# EAGLE library part BQ34Z100 (library zz-upenn)
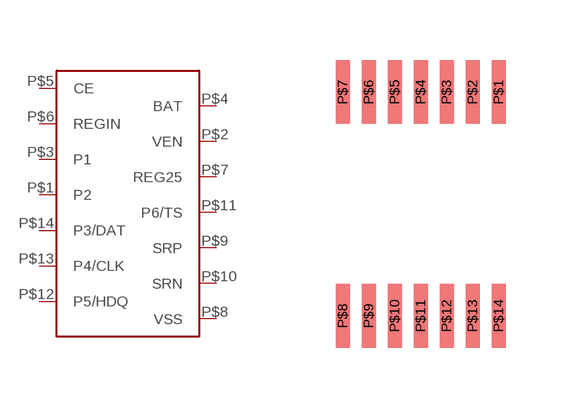
[diagram p26: symbol with the pads of TSSOP-14; footprint TSSOP-14]

Designator prefix -

## BQ34Z100  [TSSOP-14]
P$1  P2
P$2  VEN
P$3  P1
P$4  BAT
P$5  CE
P$6  REGIN
P$7  REG25
P$8  VSS
P$9  SRP
P$10  SRN
P$11  P6/TS
P$12  P5/HDQ
P$13  P4/CLK
P$14  P3/DAT

## Footprint TSSOP-14 (pad centres in mm)
smd 0.35 x 1.6: P$1 1.95,2.8; P$2 1.3,2.8; P$3 0.65,2.8; P$4 0,2.8; P$5 -0.65,2.8; P$6 -1.3,2.8; P$7 -1.95,2.8; P$8 -1.95,-2.8; P$9 -1.3,-2.8; P$10 -0.65,-2.8; P$11 0,-2.8; P$12 0.65,-2.8; P$13 1.3,-2.8; P$14 1.95,-2.8